# EAGLE library part TEXAS_INSTRUMENTS-MICROCONTROLLER-MSP432E411YTZADR (library Module_ICs)
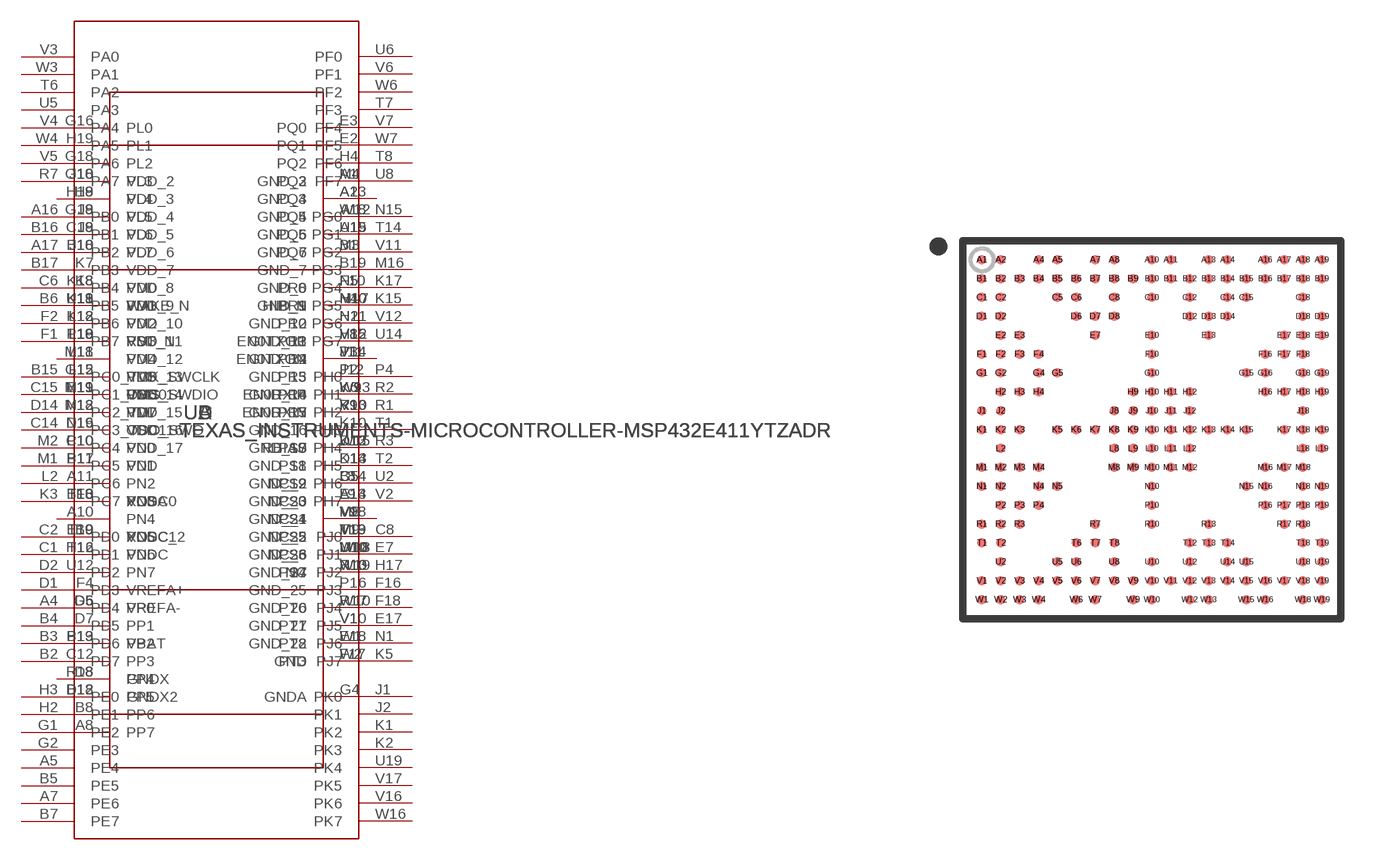
[diagram p24: symbol with the pads of TEXAS_INSTRUMENTS-MICROCONTROLLER-MSP432E411YTZADR; footprint TEXAS_INSTRUMENTS-MICROCONTROLLER-MSP432E411YTZADR]

Designator prefix U; gates A=MSP432E411YZAD_A B=MSP432E411YZAD_B C=MSP432E411YZAD_C D=MSP432E411YZAD_D

## TEXAS_INSTRUMENTS-MICROCONTROLLER-MSP432E411YTZADR (MANUFACTURER: Texas Instruments; PARTNUMBER: MSP432E411YTZADR; REFDES: RefDes; TYPE: TYPE; VALUE: Value)  [TEXAS_INSTRUMENTS-MICROCONTROLLER-MSP432E411YTZADR]
A1  D:GND_2  pwr
A2  D:GND_3  pwr
A4  A:PD4
A5  A:PE4
A7  A:PE6
A8  B:PP7
A10  B:PN4
A11  B:PN2
A13  B:PQ4
A14  B:PS3
A16  A:PB0
A17  A:PB2
A18  D:GND_4  pwr
A19  D:GND_5  pwr
B1  D:GND_6  pwr
B2  A:PD7
B3  A:PD6
B4  A:PD5
B5  A:PE5
B6  A:PB5
B7  A:PE7
B8  B:PP6
B9  B:PN5
B10  B:PN3
B11  B:PN1
B12  B:PP5
B13  B:PP2
B14  B:PS2
B15  A:PC0_TCK_SWCLK
B16  A:PB1
B17  A:PB3
B18  B:PL7
B19  D:GND_7  pwr
C1  A:PD1
C2  A:PD0
C5  C:NC_2  pas
C6  A:PB4
C8  A:PJ0
C10  B:PN0
C12  B:PP3
C14  A:PC3_TDO_SWO
C15  A:PC1_TMS_SWDIO
C18  B:PL6
D1  A:PD3
D2  A:PD2
D6  B:PP0
D7  B:PP1
D8  B:PP4
D12  B:PS0
D13  B:PS1
D14  A:PC2_TDI
D18  D:GNDX2  pwr
D19  C:OSC1  pas
E2  B:PQ1
E3  B:PQ0
E7  A:PJ1
E10  D:VDDC_2  pwr
E13  C:NC_3  pas
E17  A:PJ5
E18  B:PT2
E19  C:OSC0  in
F1  A:PB7
F2  A:PB6
F3  D:VDDA  pwr
F4  D:VREFA+  pwr
F10  D:GND_8  pwr
F16  A:PJ3
F17  B:PT3
F18  A:PJ4
G1  A:PE2
G2  A:PE3
G4  D:GNDA  pwr
G5  D:VREFA-  pwr
G10  D:VDD_2  pwr
G15  B:PM5
G16  B:PL0
G18  B:PL2
G19  B:PL5
H2  A:PE1
H3  A:PE0
H4  B:PQ2
H9  D:VDD_3  pwr
H10  D:GND_9  pwr
H11  D:GND_10  pwr
H12  D:GND_11  pwr
H16  D:VDDC  pwr
H17  A:PJ2
H18  B:PL4
H19  B:PL1
J1  A:PK0
J2  A:PK1
J8  D:VDD_4  pwr
J9  D:VDD_5  pwr
J10  D:VDD_6  pwr
J11  D:GND_12  pwr
J12  D:GND_13  pwr
J18  B:PL3
K1  A:PK2
K2  A:PK3
K3  A:PC7
K5  A:PJ7
K6  D:GND_14  pwr
K7  D:VDD_7  pwr
K8  D:VDD_8  pwr
K9  D:GND_15  pwr
K10  D:GND_16  pwr
K11  D:VDD_9  pwr
K12  D:VDD_10  pwr
K13  D:GND_17  pwr
K14  D:GND_18  pwr
K15  A:PG5
K17  A:PG4
K18  B:PM0
K19  B:PM1
L2  A:PC6
L8  D:GND_19  pwr
L9  D:GND_20  pwr
L10  D:VDD_11  pwr
L11  D:VDD_12  pwr
L12  D:VDD_13  pwr
L18  B:PM2
L19  B:PM3
M1  A:PC5
M2  A:PC4
M3  B:PQ7
M4  B:PQ3
M8  D:GND_21  pwr
M9  D:GND_22  pwr
M10  D:GND_23  pwr
M11  D:VDD_14  pwr
M12  D:VDD_15  pwr
M16  A:PG3
M17  C:HIB_N  out
M18  B:PM4
N1  A:PJ6
N2  B:PR2
N4  B:PR1
N5  B:PR0
N10  D:GND_24  pwr
N15  A:PG0
N16  D:VDD_16  pwr
N18  B:PM7
N19  B:PM6
P2  B:PR5
P3  B:PR4
P4  A:PH0
P10  D:VDD_17  pwr
P16  D:GND_25  pwr
P17  D:VDD  pwr
P18  C:RST_N  in
P19  D:VBAT  pwr
R1  A:PH2
R2  A:PH1
R3  A:PH4
R7  A:PA7
R10  B:PR7
R13  B:PS7
R17  D:GND_26  pwr
R18  D:GNDX  pwr
T1  A:PH3
T2  A:PH5
T6  A:PA2
T7  A:PF3
T8  A:PF6
T12  B:PN6
T13  B:PS5
T14  A:PG1
T18  C:XOSC0  in
T19  C:XOSC1  pas
U2  A:PH6
U5  A:PA3
U6  A:PF0
U8  A:PF7
U10  B:PS6
U12  B:PN7
U14  A:PG7
U15  B:PQ6
U18  C:WAKE_N  in
U19  A:PK4
V1  D:GND_27  pwr
V2  A:PH7
V3  A:PA0
V4  A:PA4
V5  A:PA6
V6  A:PF1
V7  A:PF4
V8  B:PR3
V9  B:PS4
V10  B:PT1
V11  A:PG2
V12  A:PG6
V13  C:EN0RXIN
V14  C:EN0TXON
V15  C:EN0TXOP
V16  A:PK6
V17  A:PK5
V18  C:NC_4  pas
V19  C:NC_5  pas
W1  D:GND_28  pwr
W2  D:GND  pwr
W3  A:PA1
W4  A:PA5
W6  A:PF2
W7  A:PF5
W9  B:PR6
W10  B:PT0
W12  B:PQ5
W13  C:EN0RXIP
W15  C:RBIAS  out
W16  A:PK7
W18  C:NC_6  pas
W19  C:NC  pas

## Footprint TEXAS_INSTRUMENTS-MICROCONTROLLER-MSP432E411YTZADR (pad centres in mm)
smd 0.25 x 0.25: A1 -4.5,4.5; A2 -4,4.5; A4 -3,4.5; A5 -2.5,4.5; A7 -1.5,4.5; A8 -1,4.5; A10 0,4.5; A11 0.5,4.5; A13 1.5,4.5; A14 2,4.5; A16 3,4.5; A17 3.5,4.5; A18 4,4.5; A19 4.5,4.5; B1 -4.5,4; B2 -4,4; B3 -3.5,4; B4 -3,4; B5 -2.5,4; B6 -2,4; B7 -1.5,4; B8 -1,4; B9 -0.5,4; B10 0,4; B11 0.5,4; B12 1,4; B13 1.5,4; B14 2,4; B15 2.5,4; B16 3,4; B17 3.5,4; B18 4,4; B19 4.5,4; C1 -4.5,3.5; C2 -4,3.5; C5 -2.5,3.5; C6 -2,3.5; C8 -1,3.5; C10 0,3.5; C12 1,3.5; C14 2,3.5; C15 2.5,3.5; C18 4,3.5; D1 -4.5,3; D2 -4,3; D6 -2,3; D7 -1.5,3; D8 -1,3; D12 1,3; D13 1.5,3; D14 2,3; D18 4,3; D19 4.5,3; E2 -4,2.5; E3 -3.5,2.5; E7 -1.5,2.5; E10 0,2.5; E13 1.5,2.5; E17 3.5,2.5; E18 4,2.5; E19 4.5,2.5; F1 -4.5,2; F2 -4,2; F3 -3.5,2; F4 -3,2; F10 0,2; F16 3,2; F17 3.5,2; F18 4,2; G1 -4.5,1.5; G2 -4,1.5; G4 -3,1.5; G5 -2.5,1.5; G10 0,1.5; G15 2.5,1.5; G16 3,1.5; G18 4,1.5; G19 4.5,1.5; H2 -4,1; H3 -3.5,1; H4 -3,1; H9 -0.5,1; H10 0,1; H11 0.5,1; H12 1,1; H16 3,1; H17 3.5,1; H18 4,1; H19 4.5,1; J1 -4.5,0.5; J2 -4,0.5; J8 -1,0.5; J9 -0.5,0.5; J10 0,0.5; J11 0.5,0.5; J12 1,0.5; J18 4,0.5; K1 -4.5,0; K2 -4,0; K3 -3.5,0; K5 -2.5,0; K6 -2,0; K7 -1.5,0; K8 -1,0; K9 -0.5,0; K10 0,0; K11 0.5,0; K12 1,0; K13 1.5,0; K14 2,0; K15 2.5,0; K17 3.5,0; K18 4,0; K19 4.5,0; L2 -4,-0.5; L8 -1,-0.5; L9 -0.5,-0.5; L10 0,-0.5; L11 0.5,-0.5; L12 1,-0.5; L18 4,-0.5; L19 4.5,-0.5; M1 -4.5,-1; M2 -4,-1; M3 -3.5,-1; M4 -3,-1; M8 -1,-1; M9 -0.5,-1; M10 0,-1; M11 0.5,-1; M12 1,-1; M16 3,-1; M17 3.5,-1; M18 4,-1; N1 -4.5,-1.5; N2 -4,-1.5; N4 -3,-1.5; N5 -2.5,-1.5; N10 0,-1.5; N15 2.5,-1.5; N16 3,-1.5; N18 4,-1.5; N19 4.5,-1.5; P2 -4,-2; P3 -3.5,-2; P4 -3,-2; P10 0,-2; P16 3,-2; P17 3.5,-2; P18 4,-2; P19 4.5,-2; R1 -4.5,-2.5; R2 -4,-2.5; R3 -3.5,-2.5; R7 -1.5,-2.5; R10 0,-2.5; R13 1.5,-2.5; R17 3.5,-2.5; R18 4,-2.5; T1 -4.5,-3; T2 -4,-3; T6 -2,-3; T7 -1.5,-3; T8 -1,-3; T12 1,-3; T13 1.5,-3; T14 2,-3; T18 4,-3; T19 4.5,-3; U2 -4,-3.5; U5 -2.5,-3.5; U6 -2,-3.5; U8 -1,-3.5; U10 0,-3.5; U12 1,-3.5; U14 2,-3.5; U15 2.5,-3.5; U18 4,-3.5; U19 4.5,-3.5; V1 -4.5,-4; V2 -4,-4; V3 -3.5,-4; V4 -3,-4; V5 -2.5,-4; V6 -2,-4; V7 -1.5,-4; V8 -1,-4; V9 -0.5,-4; V10 0,-4; V11 0.5,-4; V12 1,-4; V13 1.5,-4; V14 2,-4; V15 2.5,-4; V16 3,-4; V17 3.5,-4; V18 4,-4; V19 4.5,-4; W1 -4.5,-4.5; W2 -4,-4.5; W3 -3.5,-4.5; W4 -3,-4.5; W6 -2,-4.5; W7 -1.5,-4.5; W9 -0.5,-4.5; W10 0,-4.5; W12 1,-4.5; W13 1.5,-4.5; W15 2.5,-4.5; W16 3,-4.5; W18 4,-4.5; W19 4.5,-4.5